# Altium schematic symbol library IsolatorsG.SchLib: 6 symbols
Pins are listed as number, name and electrical type; pins without a type are passive.

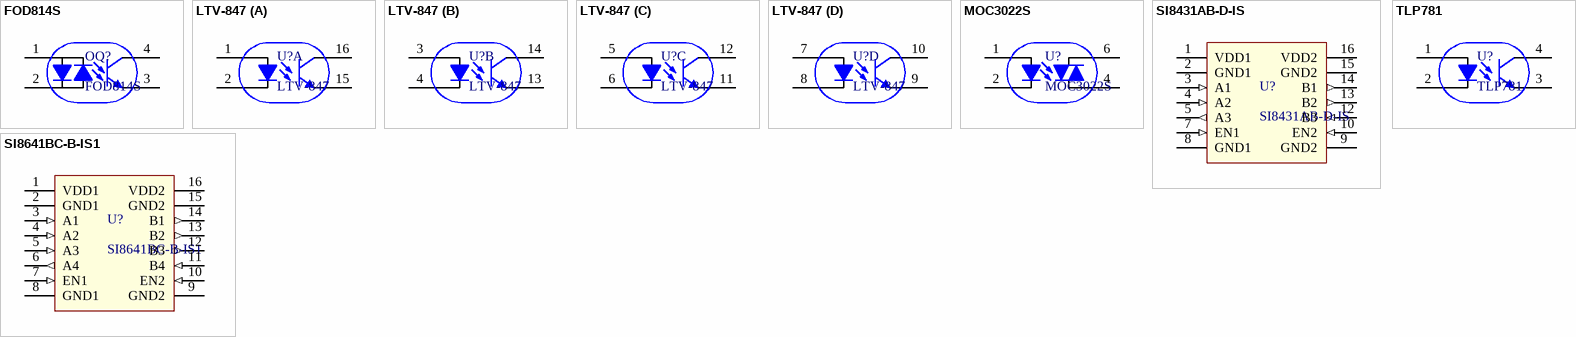
[diagram p0: symbols FOD814S to TLP781]

## FOD814S
designator OQ?
AC Opto-isolator
footprint SMD254P650-4N (SMD, 2.54mm (100mil) pitch, 6.5mm wide body)
pins: 1 AK "Anode/Cathode", 2 KA "Cathode/Anode", 3 E "Emitter", 4 C "Collector"

## LTV-847
designator U?
4 channel optoisolator; Manufacturer: Lite-On
footprint DIP-16 (DIP, 16-Pin, Row Spacing 7.62 mm, Pitch 2.54 mm)
part A pins: 1 "Anode", 2 "Cathode", 15 "Emitter", 16 "Collector"
part B pins: 3 "Anode", 4 "Cathode", 13 "Emitter", 14 "Collector"
part C pins: 5 "Anode", 6 "Cathode", 11 "Emitter", 12 "Collector"
part D pins: 7 "Anode", 8 "Cathode", 9 "Emitter", 10 "Collector"

## MOC3022S
designator U?
Opto-isolated TRIAC
footprint SMD254P650-6N (SMD, 2.54mm (100mil) pitch, 6.5mm wide body)
pins: 1 A "Anode", 2 K "Cathode", 4 MT1 "Main Terminal 1", 6 MT2 "Main Terminal 2"

## SI8431AB-D-IS
designator U?
3 channel Isolator
footprint SOIC127P1030-16N (SOIC, 16-Leads, Body 10.3x7.5mm, Pitch 1.27mm, IPC Medium Density)
pins: 1 VDD1 (power), 2 GND1 (power), 3 A1 (in), 4 A2 (in), 5 A3 (out), 7 EN1 (in), 8 GND1 (power), 9 GND2 (power), 10 EN2 (in), 12 B3 (in), 13 B2 (out), 14 B1 (out), 15 GND2 (power), 16 VDD2 (power)

## SI8641BC-B-IS1
designator U?
4 channel Isolator; Supplier Part Number 1: 336-2087-5-ND
footprint SO16 (Small Outline; 16 Leads; Body Width 3.9 mm; Pitch 1.27 mm)
pins: 1 VDD1 (power), 2 GND1 (power), 3 A1 (in), 4 A2 (in), 5 A3 (in), 6 A4 (out), 7 EN1 (in), 8 GND1 (power), 9 GND2 (power), 10 EN2 (in), 11 B4 (in), 12 B3 (out), 13 B2 (out), 14 B1 (out), 15 GND2 (power), 16 VDD2 (power)

## TLP781
designator U?
Optoisolator; Manufacturer: Lite-On
footprint DIP-4 (DIP; 4 Leads; Row Spacing 7.62 mm; Pitch 2.54 mm)
footprint SMD254P650-4N (SMD, 2.54mm (100mil) pitch, 6.5mm wide body)
pins: 1 A "Anode", 2 K "Cathode", 3 E "Emitter", 4 C "Collector"